# Altium footprint library PcbLib1.PcbLib: 21 footprints (part 2 of 2)
Each footprint in its own frame and in the unit in brackets; x right, y up, seen from the top. Pads: shape width x height; smd on the part's side, far side on the other; paste and mask are expansions set on the pad; w line width, h text height; cw(c..) or ccw(c..) is an arc to the next point about the centre after c.
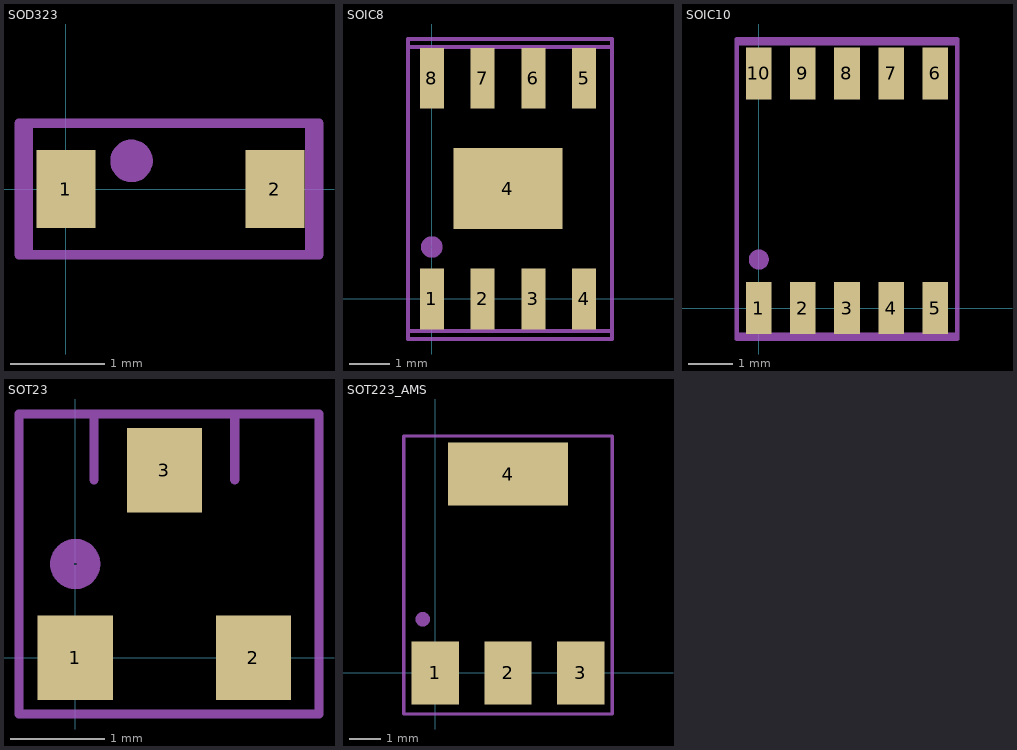
[diagram p1: the footprints below, top view; thin cyan lines are the x and y axes]

## SOD323 [mm]
pads (2):
  rect 0.63x0.83 smd mask+0.05: 1(0,0) 2(2.23,0)
Mechanical 1:
  lines w0.1: -0.4,-0.7 2.6,-0.7 2.6,0.7 -0.4,0.7 -0.4,-0.7
Mechanical 15:
  circle w0.254: c0.7,0.3 r0.1
  lines w0.1: 0.5,-0.7 -0.5,-0.7 -0.5,0.7 0.5,0.7 ; 1.8,-0.7 2.7,-0.7 2.7,0.7 1.8,0.7
3D body "User Library-SOD323-1.step": height 1.1, standoff 0, extent -0.2,-0.7 2.4,0.65

## SOIC8 [mm]
pads (9):
  rect 0.6x1.52 smd mask+0.05: 1(0,0.001) 2(1.27,0.001) 3(2.54,0.001) 4(3.81,0.001) 5(3.81,5.521) 6(2.54,5.521) 7(1.27,5.521) 8(0,5.521)
  rect 2.72x2.03 smd mask+0.05: 4(1.905,2.761)
Mechanical 1:
  lines w0.1: -0.6,-0.8 4.5,-0.8 4.5,6.3 3.225,6.3 0.675,6.3 -0.6,6.3 -0.6,-0.2 ; -0.6,-0.8 -0.6,-0.2 ; -0.6,-0.8 -0.6,-0.2
Mechanical 15:
  circle w0.254: c0,1.3 r0.141
  lines w0.1: -0.6,1 -0.6,-0.8 -0.6,-0.9 -0.6,-1 0.8,-1 4.5,-1 4.5,-0.9 4.5,1 ; -0.6,4.3 -0.6,6.5 0.1,6.5 4.5,6.5 4.5,4.3
3D body "8SIOC.stp": height 1.95, standoff 0, extent -0.6,-0.299 4.404,5.899

## SOIC10 [mm]
pads (10):
  rect 0.58x1.18 smd mask+0.05: 1(0,0) 2(1,0) 3(2,0) 4(3,0) 5(4,0) 6(4,5.32) 7(3,5.32) 8(2,5.32) 9(1,5.32) 10(0,5.32)
Mechanical 1:
  lines w0.1: -0.5,-0.6 -0.5,6 4.5,6 4.5,-0.6 -0.5,-0.6
Mechanical 15:
  circle w0.254: c0,1.1 r0.1
  lines w0.1: -0.5,1 -0.5,-0.7 ; -0.5,4.6 -0.5,5.9 -0.5,6.1 -0.3,6.1 4.4,6.1 4.5,6.1 4.5,6 4.5,4.6 ; 4.5,1 4.5,-0.6 4.5,-0.7 4.4,-0.7 -0.5,-0.7 ; -0.5,-0.7 -0.5,-0.7
3D body "User Library-Case751BQ.STEP": height 1.75, standoff 0, extent -0.45,-0.3 4.45,5.7

## SOT23 [mm]
pads (3):
  rect 0.8x0.9 smd mask+0.05: 1(0,0) 2(1.9,0) 3(0.95,2)
Mechanical 1:
  lines w0.1: -0.6,-0.6 -0.6,2.6 2.6,2.6 2.6,-0.6 -0.6,-0.6
Mechanical 15:
  circle w0.254: c0,1 r0.141
  lines w0.1: -0.6,0.6 -0.6,-0.6 2.5,-0.6 2.6,-0.6 ; 0.2,1.9 0.2,2.6 1.7,2.6 1.7,1.9 ; 2.6,0.5 2.6,-0.6 ; 2.6,-0.6 2.6,-0.6
3D body "CircuitWorks-SOT-23.step": height 1.1, standoff 0, extent -0.5,-0.25 2.5,2.25

## SOT223_AMS [mm]
pads (4):
  rect 1.5x2 smd mask+0.05: 1(0,0) 2(2.3,0) 3(4.6,0)
  rect 3.8x2 smd mask+0.05: 4(2.3,6.3)
Mechanical 1:
  lines w0.1: -1,-1.3 -1,7.5 5.6,7.5 5.6,-1.3 -1,-1.3
Mechanical 15:
  circle w0.254: c-0.4,1.7 r0.1
  lines w0.1: -1,1.6 -1,-1.3 5.6,-1.3 5.6,1.6 ; -1,4.9 -1,7.5 5.6,7.5 5.6,5.2
3D body "AMS1117.step": height 1.85, standoff -0.01, extent -0.952,-0.3 5.553,6.7